# Altium footprint library solar_cell_28.1.PcbLib: 2 footprints
Each footprint in its own frame and in the unit in brackets; x right, y up, seen from the top. Pads: shape width x height; smd on the part's side, far side on the other; paste and mask are expansions set on the pad; w line width, h text height; cw(c..) or ccw(c..) is an arc to the next point about the centre after c.

## PCBComponent_1 [mm]
3D body "Solar_Panel_David.sldprt": height 2.33, standoff 2.1, extent 22.103,1.546 102.103,42.418

## SOLAR_CELL_28.1 [mm]
3D body: height 0.25, standoff 0, extent -96.774,32.639 -96.774,32.639